# Altium footprint library Passive.PcbLib: 49 footprints (part 3 of 4)
Each footprint in its own frame and in the unit in brackets; x right, y up, seen from the top. Pads: shape width x height; smd on the part's side, far side on the other; paste and mask are expansions set on the pad; w line width, h text height; cw(c..) or ccw(c..) is an arc to the next point about the centre after c.
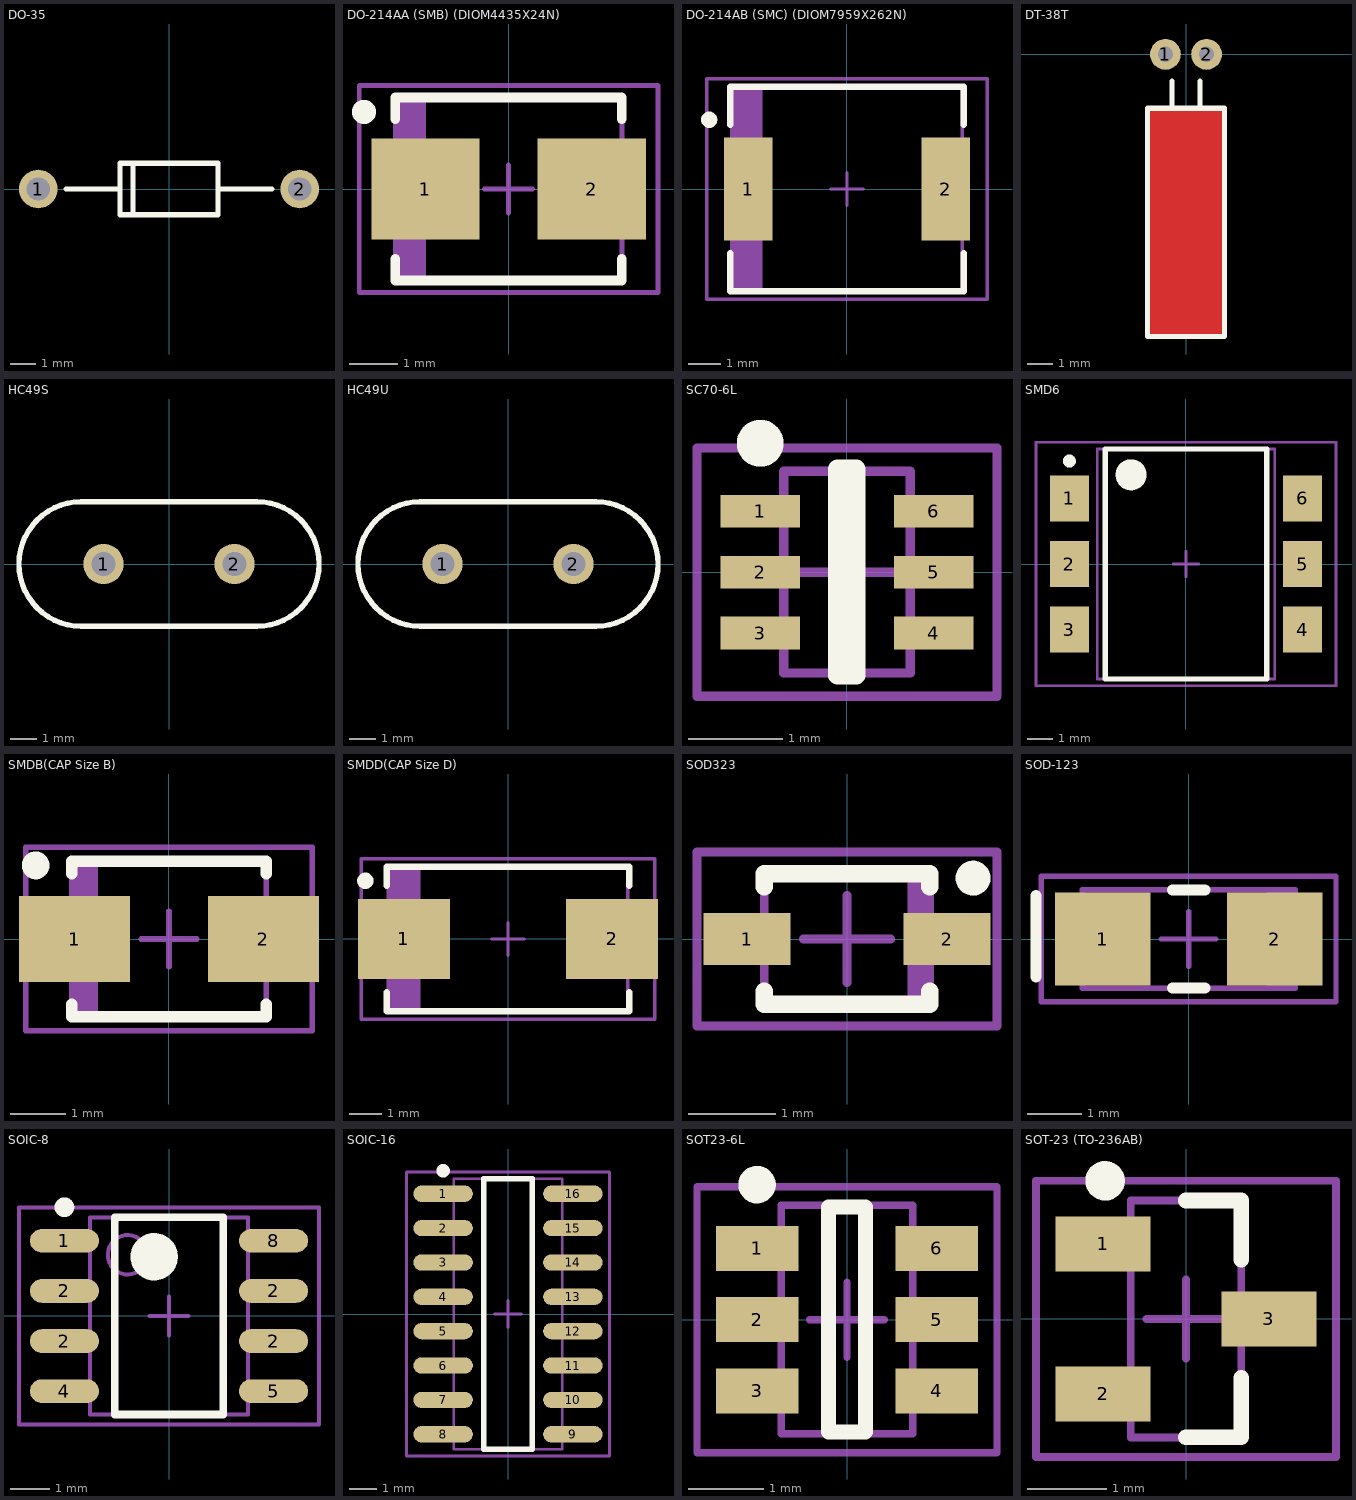
[diagram p2: the footprints below, top view; thin cyan lines are the x and y axes]

## DO-35 [mm]
pads (2):
  round 1.5 hole 0.9: 1(-5.08,0) 2(5.08,0)
Top Overlay:
  lines w0.2: -4,0 -1.9,0 ; -1.4,-1 -1.4,1 ; 1.9,0 4,0 ; -1.9,-1 1.9,-1 1.9,1 -1.9,1 -1.9,-1
3D body "User Library-do_35.step": height 2.15, standoff -2.54, extent -5.346,-0.878 5.346,0.875

## DO-214AA (SMB) (DIOM4435X24N) [mm] "Molded Diode, 2-Leads, Body 4,4x3,5mm, IPC Medium Density"
height 2.4
pads (2):
  rect 2.25x2.1 smd: 1(-1.725,0) 2(1.725,0)
Top Overlay:
  circle w0.25: c-3,1.6 r0.125
  lines w0.2: -2.35,-1.45 -2.35,-1.9 2.35,-1.9 2.35,-1.45 ; -2.35,1.45 -2.35,1.9 2.35,1.9 2.35,1.45
Mechanical 13:
  rectangle: -2.35,-1.9 -1.718,1.9
  lines w0.1: -2.35,-1.9 -2.35,1.9 2.35,1.9 2.35,-1.9 -2.35,-1.9
Mechanical 15:
  lines w0.1: -0.5,0 0.5,0 ; 0,-0.5 0,0.5 ; -3.1,-2.15 -3.1,2.15 3.1,2.15 3.1,-2.15 -3.1,-2.15
3D body "User Library-Diode Molded Body (1).step": height 2.38, standoff -0.03, extent -2.7,-1.8 2.7,1.8

## DO-214AB (SMC) (DIOM7959X262N) [mm] "Molded Diode, 2-Leads, Body 6,9x5,9mm, IPC Medium Density"
height 2.616
pads (2):
  rect 1.49x3.17 smd: 1(-3.04,0) 2(3.04,0)
Top Overlay:
  circle w0.25: c-4.25,2.135 r0.125
  lines w0.2: -3.6,-1.985 -3.6,-3.15 3.6,-3.15 3.6,-1.985 ; -3.6,1.985 -3.6,3.15 3.6,3.15 3.6,1.985
Mechanical 13:
  rectangle: -3.555,-3.11 -2.599,3.11
  lines w0.1: -3.555,-3.11 -3.555,3.11 3.555,3.11 3.555,-3.11 -3.555,-3.11
Mechanical 15:
  lines w0.1: -0.5,0 0.5,0 ; 0,-0.5 0,0.5 ; -4.325,-3.4 -4.325,3.4 4.325,3.4 4.325,-3.4 -4.325,-3.4
3D body "User Library-Diode Molded Body.step": height 2.59, standoff -0.03, extent -3.95,-2.95 3.95,2.95

## DT-38T [mm]
pads (2):
  round 1.2 hole 0.6: 1(-0.8,0) 2(0.8,0)
Top Layer:
  rectangle: -1.5,-11 1.5,-2.1
Top Overlay:
  lines w0.2: -0.55,-2.1 -0.55,-1.05 ; 0.55,-2.1 0.55,-1.05 ; -1.5,-11 1.5,-11 1.5,-2.1 -1.5,-2.1 -1.5,-11
Top Paste:
  rectangle: -1.5,-11 1.5,-2.1
Top Solder:
  rectangle: -1.6,-11.1 1.6,-2

## HC49S [mm]
pads (2):
  round 1.5 hole 0.9: 1(-2.44,0) 2(2.44,0)
Top Overlay:
  lines w0.2: -3.265,-2.325 cw(c-3.265,0) -3.265,2.325 3.265,2.325 cw(c3.265,0) 3.265,-2.325 -3.265,-2.325
3D body "SW3dPS-HC49S.STEP": height 3.63, standoff -1.97, extent -5.576,-2.325 5.596,2.347

## HC49U [mm]
pads (2):
  round 1.5 hole 0.9: 1(-2.44,0) 2(2.44,0)
Top Overlay:
  lines w0.2: -3.265,-2.325 cw(c-3.265,0) -3.265,2.325 3.265,2.325 cw(c3.265,0) 3.265,-2.325 -3.265,-2.325
3D body "SW3dPS-HC49U.STEP": height 13.49, standoff -1.97, extent -5.586,-2.325 5.586,2.347

## SC70-6L [mm] "SOT23, 6-Leads, Body 2,2x2,2mm (max), Pitch 0,65mm, IPC Medium Density"
height 1.1
pads (6):
  rect 0.85x0.35 smd: 1(-0.925,0.65) 2(-0.925,0) 3(-0.925,-0.65) 4(0.925,-0.65) 5(0.925,0) 6(0.925,0.65)
Top Overlay:
  circle w0.25: c-0.925,1.375 r0.125
  lines w0.2: -0.1,-1.1 0.1,-1.1 0.1,1.1 -0.1,1.1 -0.1,-1.1
Mechanical 13:
  lines w0.1: -0.675,-1.075 -0.675,1.075 0.675,1.075 0.675,-1.075 -0.675,-1.075
Mechanical 15:
  lines w0.1: -0.5,0 0.5,0 ; 0,-0.5 0,0.5 ; -1.6,-1.325 -1.6,1.325 1.6,1.325 1.6,-1.325 -1.6,-1.325
3D body "User Library-SC70-6.step": height 0.93, standoff -0.02, extent -1.05,-1 1.05,1

## SMD6 [mm] "SOP, 6-Leads, Body 8,9x6,9mm (max), Pitch 2,54mm, IPC Medium Density"
height 5.08
pads (6):
  rect 1.52x1.78 smd: 1(-4.507,2.54) 2(-4.507,0) 3(-4.507,-2.54) 4(4.508,-2.54) 5(4.508,0) 6(4.508,2.54)
Top Overlay:
  circle w0.6: c-2.125,3.45 r0.3
  circle w0.25: c-4.507,3.98 r0.125
  lines w0.2: -3.125,-4.45 3.125,-4.45 3.125,4.45 -3.125,4.45 -3.125,-4.45
Mechanical 13:
  lines w0.1: -3.43,-4.445 3.43,-4.445 3.43,4.445 -3.43,4.445 -3.43,-4.445
Mechanical 15:
  lines w0.1: -0.5,0 0.5,0 ; 0,-0.5 0,0.5 ; -5.8,-4.7 5.8,-4.7 5.8,4.7 -5.8,4.7 -5.8,-4.7

## SMDB(CAP Size B) [mm] "Molded Capacitor, 2-Leads, Body 3,5x2,8mm, IPC Medium Density"
height 1.9
pads (2):
  rect 2x1.55 smd: 1(-1.7,0) 2(1.7,0)
Top Overlay:
  circle w0.25: c-2.4,1.325 r0.125
  lines w0.2: -1.75,-1.175 -1.75,-1.4 1.75,-1.4 1.75,-1.175 ; -1.75,1.175 -1.75,1.4 1.75,1.4 1.75,1.175
Mechanical 13:
  rectangle: -1.75,-1.4 -1.279,1.4
  lines w0.1: -1.75,-1.4 1.75,-1.4 1.75,1.4 -1.75,1.4 -1.75,-1.4
Mechanical 15:
  lines w0.1: -0.5,0 0.5,0 ; 0,-0.5 0,0.5 ; -2.575,-1.65 2.575,-1.65 2.575,1.65 -2.575,1.65 -2.575,-1.65
3D body "SW3dPS-Solid Tantalum Chip Capacitor.STEP": height 2.11, standoff -0.04, extent -2.519,-1.52 2.48,1.477

## SMDD(CAP Size D) [mm] "Molded Capacitor, 2-Leads, Body 7,3x4,3mm, IPC Medium Density"
height 2.8
pads (2):
  rect 2.8x2.45 smd: 1(-3.175,0) 2(3.175,0)
Top Overlay:
  circle w0.25: c-4.35,1.775 r0.125
  lines w0.2: -3.7,-1.625 -3.7,-2.2 3.7,-2.2 3.7,-1.625 ; -3.7,1.625 -3.7,2.2 3.7,2.2 3.7,1.625
Mechanical 13:
  rectangle: -3.65,-2.15 -2.668,2.15
  lines w0.1: -3.65,-2.15 -3.65,2.15 3.65,2.15 3.65,-2.15 -3.65,-2.15
Mechanical 15:
  lines w0.1: -0.5,0 0.5,0 ; 0,-0.5 0,0.5 ; -4.475,-2.45 -4.475,2.45 4.475,2.45 4.475,-2.45 -4.475,-2.45
3D body "SW3dPS-Solid Tantalum Chip Capacitor.STEP": height 3.1, standoff -0.04, extent -4.498,-2.3 4.498,2.31

## SOD323 [mm] "Molded Diode, 2-Leads, Body 1,8x1,3mm, IPC Medium Density"
height 1.1
pads (2):
  rect 1x0.6 smd: 1(-1.15,0) 2(1.15,0)
Top Overlay:
  circle w0.2: c1.45,0.7 r0.1
  lines w0.2: -0.95,-0.6 -0.95,-0.75 0.95,-0.75 0.95,-0.6 ; -0.95,0.6 -0.95,0.75 0.95,0.75 0.95,0.6
Mechanical 13:
  rectangle: 0.694,-0.725 0.95,0.725
  lines w0.1: -0.95,-0.725 0.95,-0.725 0.95,0.725 -0.95,0.725 -0.95,-0.725
Mechanical 15:
  lines w0.1: -0.5,0 0.5,0 ; 0,-0.5 0,0.5 ; -1.725,-1 1.725,-1 1.725,1 -1.725,1 -1.725,-1
3D body "SW3dPS-SOD-323F.STEP": height 0.79, standoff -0.08, extent -1.35,-0.68 1.35,0.67

## SOD-123 [mm] "Molded Diode, 2-Leads, Body 3,7x1,6mm, IPC Medium Density"
height 2.616
pads (2):
  rect 1.75x1.7 smd: 1(-1.575,0) 2(1.575,0)
Top Overlay:
  lines w0.2: -2.8,-0.7 -2.8,0.8 ; -0.3,-0.9 0.3,-0.9 ; -0.3,0.9 0.3,0.9
Mechanical 13:
  rectangle: 1.425,-0.9 1.95,0.9
  lines w0.1: -1.95,-0.9 -1.95,0.9 1.95,0.9 1.95,-0.9 -1.95,-0.9
Mechanical 15:
  lines w0.1: -0.5,0 0.5,0 ; 0,-0.5 0,0.5 ; -2.7,-1.15 -2.7,1.15 2.7,1.15 2.7,-1.15 -2.7,-1.15
3D body "User Library-SOD-123_DiodesInc.step": height 1.42, standoff -0.03, extent -1.925,-0.8 1.925,0.9

## SOIC-8 [mm] "SOIC, 8-Leads, Body 5,0x4,0mm (max), Pitch 1,27mm, IPC Medium Density"
height 1.75
pads (8):
  oval 1.75x0.6 smd: 1(-2.65,1.905) 2(-2.65,-0.635) 2(-2.65,0.635) 2(2.65,-0.635) 2(2.65,0.635) 4(-2.65,-1.905) 5(2.65,-1.905) 8(2.65,1.905)
Top Overlay:
  circle w0.6: c-0.375,1.5 r0.3
  circle w0.25: c-2.65,2.755 r0.125
  lines w0.2: -1.375,-2.5 1.375,-2.5 1.375,2.5 -1.375,2.5 -1.375,-2.5
Mechanical 13:
  circle w0.1: c-1.05,1.55 r0.5
  lines w0.1: -2,-2.5 2,-2.5 2,2.5 -2,2.5 -2,-2.5
Mechanical 15:
  lines w0.1: -0.5,0 0.5,0 ; 0,-0.5 0,0.5 ; -3.8,-2.75 3.8,-2.75 3.8,2.75 -3.8,2.75 -3.8,-2.75
3D body "User Library-SOIC-8.STEP": height 1.75, standoff 0, extent -3.006,-2.5 3.006,2.5

## SOIC-16 [mm] "SOIC, 16-Leads, Body 10,0x4,0mm (max), Pitch 1,27mm, IPC Medium Density"
height 1.75
pads (16):
  oval 2.2x0.6 smd: 1(-2.4,4.445) 2(-2.4,3.175) 3(-2.4,1.905) 4(-2.4,0.635) 5(-2.4,-0.635) 6(-2.4,-1.905) 7(-2.4,-3.175) 8(-2.4,-4.445) 9(2.4,-4.445) 10(2.4,-3.175) 11(2.4,-1.905) 12(2.4,-0.635) 13(2.4,0.635) 14(2.4,1.905) 15(2.4,3.175) 16(2.4,4.445)
Top Overlay:
  circle w0.25: c-2.4,5.295 r0.125
  lines w0.2: -0.9,-5 -0.9,5 0.9,5 0.9,-5 -0.9,-5
Mechanical 13:
  lines w0.1: -2,-5 -2,5 2,5 2,-5 -2,-5
Mechanical 15:
  lines w0.1: -0.5,0 0.5,0 ; 0,-0.5 0,0.5 ; -3.75,-5.25 -3.75,5.25 3.75,5.25 3.75,-5.25 -3.75,-5.25
3D body "User Library-so16.step": height 1.7, standoff 0, extent -2.99,-5.1 3.01,5.1

## SOT23-6L [mm] "SOT23, 6-Leads, Body 3,0x3,0mm (max), Pitch 0,95mm, IPC Medium Density"
height 1.45
pads (6):
  rect 1.1x0.6 smd: 1(-1.2,0.95) 2(-1.2,0) 3(-1.2,-0.95) 4(1.2,-0.95) 5(1.2,0) 6(1.2,0.95)
Top Overlay:
  circle w0.25: c-1.2,1.8 r0.125
  lines w0.2: -0.25,-1.5 0.25,-1.5 0.25,1.5 -0.25,1.5 -0.25,-1.5
Mechanical 13:
  lines w0.1: -0.875,-1.525 -0.875,1.525 0.875,1.525 0.875,-1.525 -0.875,-1.525
Mechanical 15:
  lines w0.1: -0.5,0 0.5,0 ; 0,-0.5 0,0.5 ; -2,-1.775 -2,1.775 2,1.775 2,-1.775 -2,-1.775
3D body "User Library-SOT23-6.step": height 1.3, standoff 0, extent -1.5,-1.5 1.5,1.5

## SOT-23 (TO-236AB) [mm] "SOT23, 3-Leads, Body 3,0x2,5mm (max), Pitch 0,95mm, IPC Medium Density"
height 1.1
pads (3):
  rect 1.2x0.7 smd: 1(-1.05,0.95) 2(-1.05,-0.95) 3(1.05,0)
Top Overlay:
  circle w0.25: c-1.025,1.75 r0.125
  lines w0.2: 0,-1.5 0.7,-1.5 0.7,-0.75 ; 0,1.5 0.7,1.5 0.7,0.75
Mechanical 13:
  lines w0.1: -0.7,-1.5 0.7,-1.5 0.7,1.5 -0.7,1.5 -0.7,-1.5
Mechanical 15:
  lines w0.1: -0.5,0 0.5,0 ; 0,-0.5 0,0.5 ; -1.9,-1.75 1.9,-1.75 1.9,1.75 -1.9,1.75 -1.9,-1.75
3D body "SOT-23.STEP": height 1.1, standoff 0, extent -1.1,-1.5 1.2,1.5